# Altium schematic symbol library DSP_AnalogDevices.SchLib: 5 symbols
Pins are listed as number, name and electrical type; pins without a type are passive.

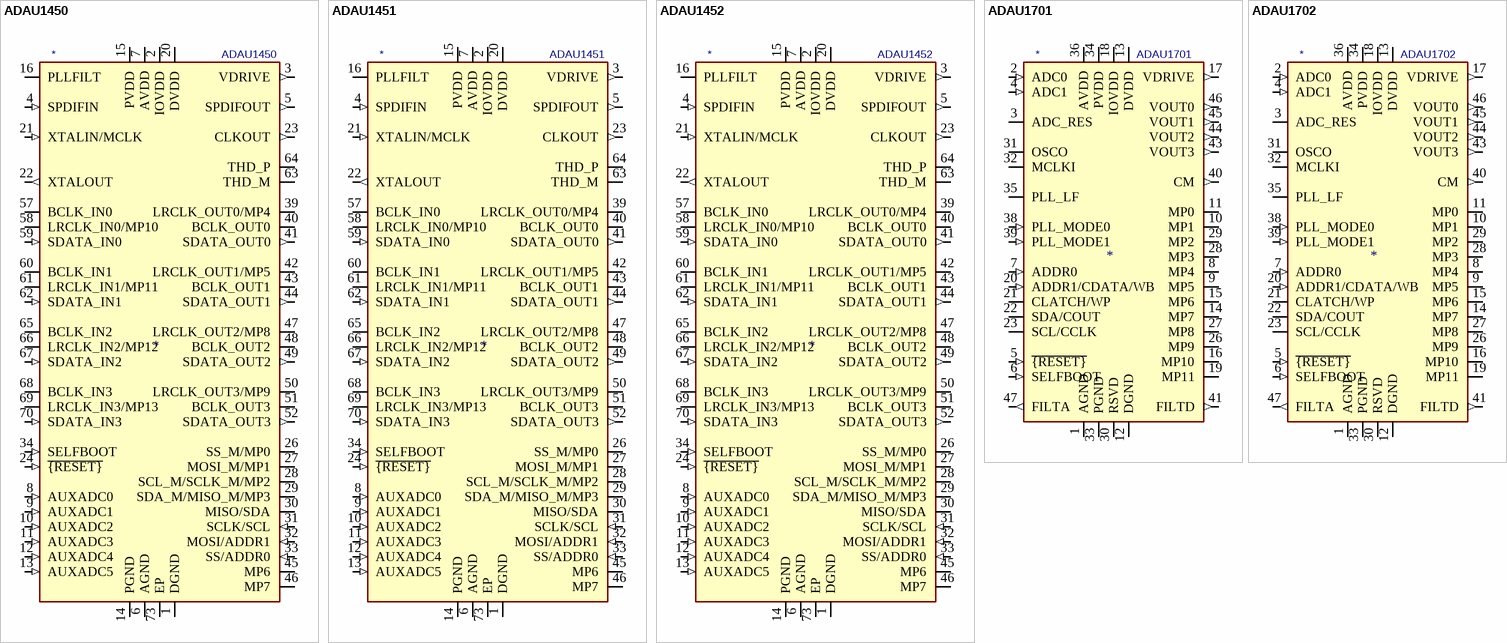
[diagram p0: symbols ADAU1450 to ADAU1702]

## ADAU1450
designator *  value ADAU1450
ki_keywords: sigmadsp audio; ki_description: SigmaDSP SigmaDSP Digital Audio Processor, 147.456 MHz, 8kword Data RAM, I2C/SPI, LFCSP-72; ki_fp_filters: LFCSP*1EP*10x10mm*P0.5mm*; Footprint: Package_CSP:LFCSP-72-1EP_10x10mm_P0.5mm_EP5.3x5.3mm; Supplier: https://www.analog.com/media/en/technical-documentation/data-sheets/ADAU1452_1451_1450.pdf
footprint LFCSP-72-1EP_10x10mm_P0.5mm_EP5.3x5.3mm
pins: 1 DGND (power), 2 IOVDD (power), 3 VDRIVE (out), 4 SPDIFIN (in), 5 SPDIFOUT (out), 6 AGND (power), 7 AVDD (power), 8 AUXADC0 (in), 9 AUXADC1 (in), 10 AUXADC2 (in), 11 AUXADC3 (in), 12 AUXADC4 (in), 13 AUXADC5 (in), 14 PGND (power), 15 PVDD (power), 16 PLLFILT, 17 DGND hidden, 18 IOVDD hidden, 19 DGND hidden, 20 DVDD (power), 21 XTALIN/MCLK (in), 22 XTALOUT (out), 23 CLKOUT (out), 24 ~{{RESET}} (in), 25 DGND hidden, 26 SS_M/MP0 (io), 27 MOSI_M/MP1 (io), 28 SCL_M/SCLK_M/MP2 (io), 29 SDA_M/MISO_M/MP3 (io), 30 MISO/SDA (io), 31 SCLK/SCL (in), 32 MOSI/ADDR1 (in), 33 SS/ADDR0 (in), 34 SELFBOOT (in), 35 DVDD hidden, 36 DGND hidden, 37 DGND hidden, 38 IOVDD hidden, 39 LRCLK_OUT0/MP4 (io), 40 BCLK_OUT0 (io), 41 SDATA_OUT0 (out), 42 LRCLK_OUT1/MP5 (io), 43 BCLK_OUT1 (io), 44 SDATA_OUT1 (out), 45 MP6 (io), 46 MP7 (io), 47 LRCLK_OUT2/MP8 (io), 48 BCLK_OUT2 (io), 49 SDATA_OUT2 (out), 50 LRCLK_OUT3/MP9 (io), 51 BCLK_OUT3 (io), 52 SDATA_OUT3 (out), 53 DVDD hidden, 54 DGND hidden, 55 DGND hidden, 56 IOVDD hidden, 57 BCLK_IN0 (io), 58 LRCLK_IN0/MP10 (io), 59 SDATA_IN0 (in), 60 BCLK_IN1 (io), 61 LRCLK_IN1/MP11 (io), 62 SDATA_IN1 (in), 63 THD_M, 64 THD_P, 65 BCLK_IN2 (io), 66 LRCLK_IN2/MP12 (io), 67 SDATA_IN2 (in), 68 BCLK_IN3 (io), 69 LRCLK_IN3/MP13 (io), 70 SDATA_IN3 (in), 71 DVDD hidden, 72 DGND hidden, 73 EP (power)

## ADAU1451
designator *  value ADAU1451
ki_keywords: sigmadsp audio; ki_description: SigmaDSP SigmaDSP Digital Audio Processor, 294.912 MHz, 40kword Data RAM, I2C/SPI, S/PDIF I/O, 16-Channel ASRC, LFCSP-72; ki_fp_filters: LFCSP*1EP*10x10mm*P0.5mm*; Footprint: Package_CSP:LFCSP-72-1EP_10x10mm_P0.5mm_EP5.3x5.3mm; Supplier: https://www.analog.com/media/en/technical-documentation/data-sheets/ADAU1452_1451_1450.pdf
footprint LFCSP-72-1EP_10x10mm_P0.5mm_EP5.3x5.3mm
pins: 1 DGND (power), 2 IOVDD (power), 3 VDRIVE (out), 4 SPDIFIN (in), 5 SPDIFOUT (out), 6 AGND (power), 7 AVDD (power), 8 AUXADC0 (in), 9 AUXADC1 (in), 10 AUXADC2 (in), 11 AUXADC3 (in), 12 AUXADC4 (in), 13 AUXADC5 (in), 14 PGND (power), 15 PVDD (power), 16 PLLFILT, 17 DGND hidden, 18 IOVDD hidden, 19 DGND hidden, 20 DVDD (power), 21 XTALIN/MCLK (in), 22 XTALOUT (out), 23 CLKOUT (out), 24 ~{{RESET}} (in), 25 DGND hidden, 26 SS_M/MP0 (io), 27 MOSI_M/MP1 (io), 28 SCL_M/SCLK_M/MP2 (io), 29 SDA_M/MISO_M/MP3 (io), 30 MISO/SDA (io), 31 SCLK/SCL (in), 32 MOSI/ADDR1 (in), 33 SS/ADDR0 (in), 34 SELFBOOT (in), 35 DVDD hidden, 36 DGND hidden, 37 DGND hidden, 38 IOVDD hidden, 39 LRCLK_OUT0/MP4 (io), 40 BCLK_OUT0 (io), 41 SDATA_OUT0 (out), 42 LRCLK_OUT1/MP5 (io), 43 BCLK_OUT1 (io), 44 SDATA_OUT1 (out), 45 MP6 (io), 46 MP7 (io), 47 LRCLK_OUT2/MP8 (io), 48 BCLK_OUT2 (io), 49 SDATA_OUT2 (out), 50 LRCLK_OUT3/MP9 (io), 51 BCLK_OUT3 (io), 52 SDATA_OUT3 (out), 53 DVDD hidden, 54 DGND hidden, 55 DGND hidden, 56 IOVDD hidden, 57 BCLK_IN0 (io), 58 LRCLK_IN0/MP10 (io), 59 SDATA_IN0 (in), 60 BCLK_IN1 (io), 61 LRCLK_IN1/MP11 (io), 62 SDATA_IN1 (in), 63 THD_M, 64 THD_P, 65 BCLK_IN2 (io), 66 LRCLK_IN2/MP12 (io), 67 SDATA_IN2 (in), 68 BCLK_IN3 (io), 69 LRCLK_IN3/MP13 (io), 70 SDATA_IN3 (in), 71 DVDD hidden, 72 DGND hidden, 73 EP (power)

## ADAU1452
designator *  value ADAU1452
ki_keywords: sigmadsp audio; ki_description: SigmaDSP SigmaDSP Digital Audio Processor, 294.912 MHz, 40kword Data RAM, I2C/SPI, S/PDIF I/O, 16-Channel ASRC, LFCSP-72; ki_fp_filters: LFCSP*1EP*10x10mm*P0.5mm*; Footprint: Package_CSP:LFCSP-72-1EP_10x10mm_P0.5mm_EP5.3x5.3mm; Supplier: https://www.analog.com/media/en/technical-documentation/data-sheets/ADAU1452_1451_1450.pdf
footprint LFCSP-72-1EP_10x10mm_P0.5mm_EP5.3x5.3mm
pins: 1 DGND (power), 2 IOVDD (power), 3 VDRIVE (out), 4 SPDIFIN (in), 5 SPDIFOUT (out), 6 AGND (power), 7 AVDD (power), 8 AUXADC0 (in), 9 AUXADC1 (in), 10 AUXADC2 (in), 11 AUXADC3 (in), 12 AUXADC4 (in), 13 AUXADC5 (in), 14 PGND (power), 15 PVDD (power), 16 PLLFILT, 17 DGND hidden, 18 IOVDD hidden, 19 DGND hidden, 20 DVDD (power), 21 XTALIN/MCLK (in), 22 XTALOUT (out), 23 CLKOUT (out), 24 ~{{RESET}} (in), 25 DGND hidden, 26 SS_M/MP0 (io), 27 MOSI_M/MP1 (io), 28 SCL_M/SCLK_M/MP2 (io), 29 SDA_M/MISO_M/MP3 (io), 30 MISO/SDA (io), 31 SCLK/SCL (in), 32 MOSI/ADDR1 (in), 33 SS/ADDR0 (in), 34 SELFBOOT (in), 35 DVDD hidden, 36 DGND hidden, 37 DGND hidden, 38 IOVDD hidden, 39 LRCLK_OUT0/MP4 (io), 40 BCLK_OUT0 (io), 41 SDATA_OUT0 (out), 42 LRCLK_OUT1/MP5 (io), 43 BCLK_OUT1 (io), 44 SDATA_OUT1 (out), 45 MP6 (io), 46 MP7 (io), 47 LRCLK_OUT2/MP8 (io), 48 BCLK_OUT2 (io), 49 SDATA_OUT2 (out), 50 LRCLK_OUT3/MP9 (io), 51 BCLK_OUT3 (io), 52 SDATA_OUT3 (out), 53 DVDD hidden, 54 DGND hidden, 55 DGND hidden, 56 IOVDD hidden, 57 BCLK_IN0 (io), 58 LRCLK_IN0/MP10 (io), 59 SDATA_IN0 (in), 60 BCLK_IN1 (io), 61 LRCLK_IN1/MP11 (io), 62 SDATA_IN1 (in), 63 THD_M, 64 THD_P, 65 BCLK_IN2 (io), 66 LRCLK_IN2/MP12 (io), 67 SDATA_IN2 (in), 68 BCLK_IN3 (io), 69 LRCLK_IN3/MP13 (io), 70 SDATA_IN3 (in), 71 DVDD hidden, 72 DGND hidden, 73 EP (power)

## ADAU1701
designator *  value ADAU1701
ki_keywords: sigmadsp audio adc dac; ki_description: SigmaDSP 28-/56-Bit Audio Processor with Two ADCs and Four DACs, 50 MIPS, 1kword Program RAM, 2kword Data RAM, LQFP-48; ki_fp_filters: LQFP*7x7mm*P0.5mm*; Footprint: Package_QFP:LQFP-48_7x7mm_P0.5mm; Supplier: https://www.analog.com/media/en/technical-documentation/data-sheets/ADAU1701.pdf
footprint LQFP-48_7x7mm_P0.5mm
pins: 1 AGND (power), 2 ADC0 (in), 3 ADC_RES, 4 ADC1 (in), 5 ~{{RESET}} (in), 6 SELFBOOT (in), 7 ADDR0 (in), 8 MP4 (io), 9 MP5 (io), 10 MP1 (io), 11 MP0 (io), 12 DGND (power), 13 DVDD (power), 14 MP7 (io), 15 MP6 (io), 16 MP10 (io), 17 VDRIVE (out), 18 IOVDD (power), 19 MP11 (io), 20 ADDR1/CDATA/WB (in), 21 CLATCH/WP (io), 22 SDA/COUT (io), 23 SCL/CCLK (io), 24 DVDD hidden, 25 DGND hidden, 26 MP9 (io), 27 MP8 (io), 28 MP3 (io), 29 MP2 (io), 30 RSVD, 31 OSCO, 32 MCLKI, 33 PGND (power), 34 PVDD (power), 35 PLL_LF, 36 AVDD (power), 37 AGND hidden, 38 PLL_MODE0 (in), 39 PLL_MODE1 (in), 40 CM (out), 41 FILTD (out), 42 AGND hidden, 43 VOUT3 (out), 44 VOUT2 (out), 45 VOUT1 (out), 46 VOUT0 (out), 47 FILTA (out), 48 AVDD hidden

## ADAU1702
designator *  value ADAU1702
ki_keywords: sigmadsp audio adc dac; ki_description: SigmaDSP 28-/56-Bit Audio Processor with Two ADCs and Four DACs, 25 MIPS, 512kword Program RAM, 512kword Data RAM, LQFP-48; ki_fp_filters: LQFP*7x7mm*P0.5mm*; Footprint: Package_QFP:LQFP-48_7x7mm_P0.5mm; Supplier: https://www.analog.com/media/en/technical-documentation/data-sheets/ADAU1702.pdf
footprint LQFP-48_7x7mm_P0.5mm
pins: 1 AGND (power), 2 ADC0 (in), 3 ADC_RES, 4 ADC1 (in), 5 ~{{RESET}} (in), 6 SELFBOOT (in), 7 ADDR0 (in), 8 MP4 (io), 9 MP5 (io), 10 MP1 (io), 11 MP0 (io), 12 DGND (power), 13 DVDD (power), 14 MP7 (io), 15 MP6 (io), 16 MP10 (io), 17 VDRIVE (out), 18 IOVDD (power), 19 MP11 (io), 20 ADDR1/CDATA/WB (in), 21 CLATCH/WP (io), 22 SDA/COUT (io), 23 SCL/CCLK (io), 24 DVDD hidden, 25 DGND hidden, 26 MP9 (io), 27 MP8 (io), 28 MP3 (io), 29 MP2 (io), 30 RSVD, 31 OSCO, 32 MCLKI, 33 PGND (power), 34 PVDD (power), 35 PLL_LF, 36 AVDD (power), 37 AGND hidden, 38 PLL_MODE0 (in), 39 PLL_MODE1 (in), 40 CM (out), 41 FILTD (out), 42 AGND hidden, 43 VOUT3 (out), 44 VOUT2 (out), 45 VOUT1 (out), 46 VOUT0 (out), 47 FILTA (out), 48 AVDD hidden